# EAGLE library part GPS-MT3329 (library custom)
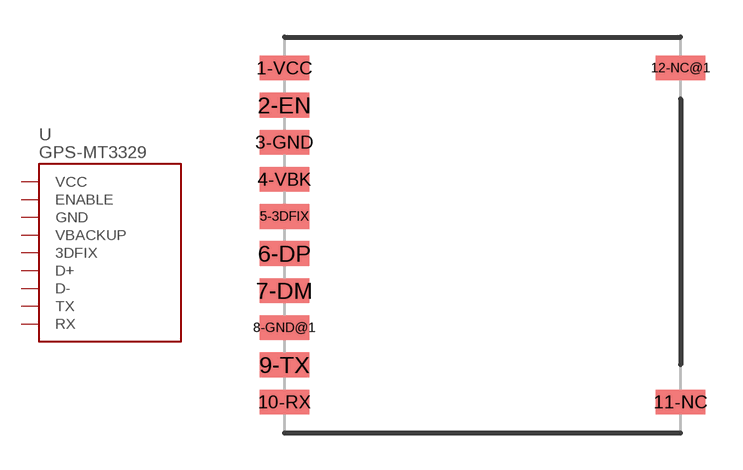
[diagram p49: symbol with the pads of GPS_MT3329; footprint GPS_MT3329]

Designator prefix U

## GPS-MT3329  [GPS_MT3329]
1-VCC  VCC
2-EN  ENABLE
3-GND  GND
4-VBK  VBACKUP
5-3DFIX  3DFIX
6-DP  D+
7-DM  D-
8-GND@1  GND
9-TX  TX
10-RX  RX

## Footprint GPS_MT3329 (pad centres in mm)
smd 2 x 1: 1-VCC -8,6.75; 2-EN -8,5.25; 3-GND -8,3.75; 4-VBK -8,2.25; 5-3DFIX -8,0.75; 6-DP -8,-0.75; 7-DM -8,-2.25; 8-GND@1 -8,-3.75; 9-TX -8,-5.25; 10-RX -8,-6.75; 11-NC 8,-6.75; 12-NC@1 8,6.75